# EAGLE library part 74AHC164 (library n64-rgb-dac)
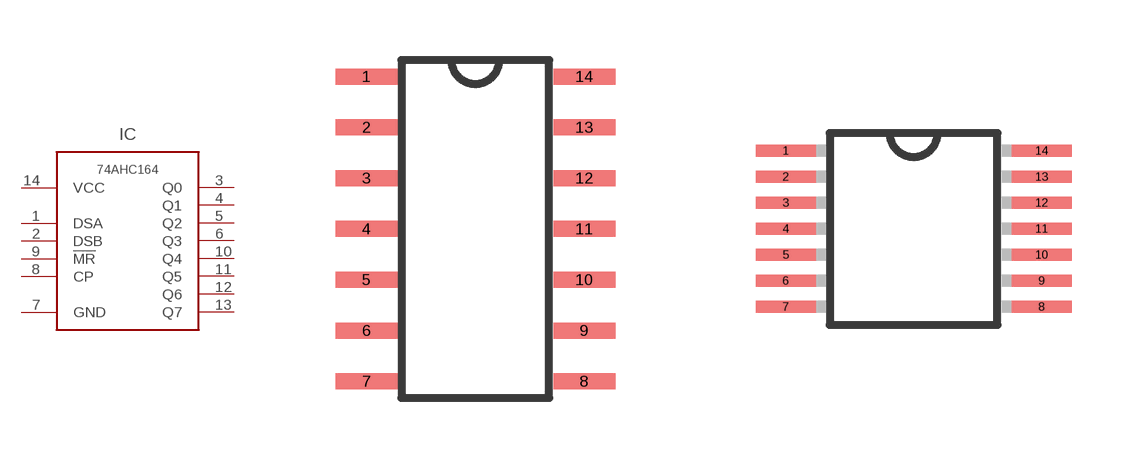
[diagram p1: symbol with the pads of SOT108-1; footprints SOT108-1, SOT402-1]

Designator prefix IC

## 74AHC164D  [SOT108-1]
1  DSA  in
2  DSB  in
3  Q0  out
4  Q1  out
5  Q2  out
6  Q3  out
7  GND  sup
8  CP  in
9  !MR  in
10  Q4  out
11  Q5  out
12  Q6  out
13  Q7  out
14  VCC  pwr

## 74AHC164PW  [SOT402-1]
Pads as for SOT108-1

## Footprint SOT108-1 (pad centres in mm)
SOT108-1 Auto generated by make-symbol-device-package-bsdl.ulp Rev. 44
smd 1.55 x 0.4: 1 -2.725,3.81; 2 -2.725,2.54; 3 -2.725,1.27; 4 -2.725,0; 5 -2.725,-1.27; 6 -2.725,-2.54; 7 -2.725,-3.81; 8 2.725,-3.81; 9 2.725,-2.54; 10 2.725,-1.27; 11 2.725,0; 12 2.725,1.27; 13 2.725,2.54; 14 2.725,3.81

## Footprint SOT402-1 (pad centres in mm)
SOT402-1 Auto generated by make-symbol-device-package-bsdl.ulp Rev. 44
smd 1.5 x 0.3: 1 -3.2,1.95; 2 -3.2,1.3; 3 -3.2,0.65; 4 -3.2,0; 5 -3.2,-0.65; 6 -3.2,-1.3; 7 -3.2,-1.95; 8 3.2,-1.95; 9 3.2,-1.3; 10 3.2,-0.65; 11 3.2,0; 12 3.2,0.65; 13 3.2,1.3; 14 3.2,1.95